# Altium footprint library dip.PcbLib: 6 footprints
Each footprint in its own frame and in the unit in brackets; x right, y up, seen from the top. Pads: shape width x height; smd on the part's side, far side on the other; paste and mask are expansions set on the pad; w line width, h text height; cw(c..) or ccw(c..) is an arc to the next point about the centre after c.
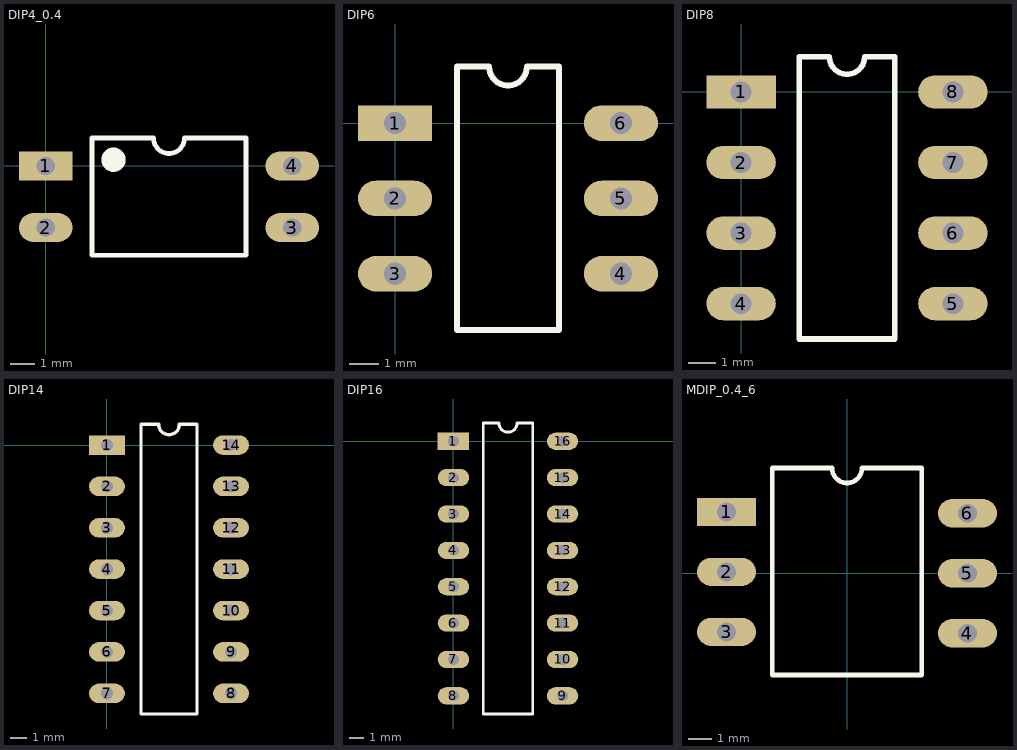
[diagram p0: the footprints below, top view; thin cyan lines are the x and y axes]

## DIP4_0.4 [mm]
pads (4):
  rect 2.2x1.2 hole 0.75: 1(0,0)
  oval 2.2x1.2 hole 0.75: 2(0,-2.54) 3(10.16,-2.54) 4(10.16,0)
Top Overlay:
  circle w0.5: c2.794,0.254 r0.25
  lines w0.2: 1.905,-3.683 8.255,-3.683 8.255,1.143 5.715,1.143 cw(c5.08,1.143) 4.445,1.143 1.905,1.143 1.905,-3.683
3D body "DIP-4_400 mil.stp": height 4.23, standoff -2.68, extent -0.13,-3.57 10.29,1.03

## DIP6 [mm]
pads (6):
  rect 2.5x1.2 hole 0.75: 1(0,0)
  oval 2.5x1.2 hole 0.75: 2(0,-2.54) 3(0,-5.08) 4(7.62,-5.08) 5(7.62,-2.54) 6(7.62,0)
Top Overlay:
  lines w0.2: 2.085,-6.985 2.085,1.905 3.175,1.905 ccw(c3.81,1.905) 4.445,1.905 5.535,1.905 5.535,-6.985 2.085,-6.985
3D body "DIP_6_7.62.stp": height 4, standoff -3.25, extent -0.15,-6.94 7.77,1.86

## DIP8 [mm]
pads (8):
  rect 2.5x1.2 hole 0.75: 1(0,0)
  oval 2.5x1.2 hole 0.75: 2(0,-2.54) 3(0,-5.08) 4(0,-7.62) 5(7.62,-7.62) 6(7.62,-5.08) 7(7.62,-2.54) 8(7.62,0)
Top Overlay:
  lines w0.2: 2.085,-8.89 5.535,-8.89 5.535,1.27 4.445,1.27 cw(c3.81,1.27) 3.175,1.27 2.085,1.27 2.085,-8.89
3D body "IC_8P.stp": height 4.05, standoff -3.13, extent -0.123,-8.89 7.747,1.27

## DIP14 [mm]
pads (14):
  rect 2.2x1.2 hole 0.75: 1(0,0)
  oval 2.2x1.2 hole 0.75: 2(0,-2.54) 3(0,-5.08) 4(0,-7.62) 5(0,-10.16) 6(0,-12.7) 7(0,-15.24) 8(7.62,-15.24) 9(7.62,-12.7) 10(7.62,-10.16) 11(7.62,-7.62) 12(7.62,-5.08) 13(7.62,-2.54) 14(7.62,0)
Top Overlay:
  lines w0.2: 2.085,-16.51 2.085,1.27 3.175,1.27 ccw(c3.81,1.27) 4.445,1.27 5.535,1.27 5.535,-16.51 2.085,-16.51
3D body "IC_14P.stp": height 4.05, standoff -3.13, extent -0.135,-16.51 7.735,1.27

## DIP16 [mm]
pads (16):
  rect 2.2x1.2 hole 0.75: 1(0,0)
  oval 2.2x1.2 hole 0.75: 2(0,-2.54) 3(0,-5.08) 4(0,-7.62) 5(0,-10.16) 6(0,-12.7) 7(0,-15.24) 8(0,-17.78) 9(7.62,-17.78) 10(7.62,-15.24) 11(7.62,-12.7) 12(7.62,-10.16) 13(7.62,-7.62) 14(7.62,-5.08) 15(7.62,-2.54) 16(7.62,0)
Top Overlay:
  lines w0.2: 2.085,-19.05 5.535,-19.05 5.535,1.27 4.445,1.27 cw(c3.81,1.27) 3.175,1.27 2.085,1.27 2.085,-19.05
3D body "IC_16P.stp": height 4.05, standoff -3.13, extent -0.123,-19.05 7.747,1.27

## MDIP_0.4_6 [mm]
pads (6):
  rect 2.5x1.2 hole 0.8: 1(-5.1,2.585)
  oval 2.5x1.2 hole 0.8: 2(-5.1,0.045) 3(-5.1,-2.495) 4(5.1,-2.55) 5(5.1,-0.01) 6(5.1,2.53)
Top Overlay:
  lines w0.2: -3.165,-4.318 -3.165,4.445 -0.635,4.445 ccw(c0,4.445) 0.635,4.445 3.165,4.445 3.165,-4.318 -3.165,-4.318
3D body "DIP_6_10.16.stp": height 4, standoff -3.25, extent -5.23,-4.355 5.23,4.445